# Altium schematic symbol library C0402C103K1RACAUTO.SchLib: 1 symbol
Pins are listed as number, name and electrical type; pins without a type are passive.

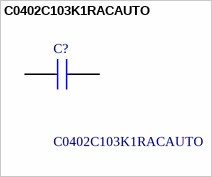
[diagram p0: symbol C0402C103K1RACAUTO]

## C0402C103K1RACAUTO
designator C?
Multilayer Ceramic Capacitors MLCC - SMD/SMT 100V 10000pF 10% X7R 1005 AEC-Q200; Manufacturer_Name: KEMET; Geometry.Height: 0.55mm; Mouser Part Number: 80-C0402C103K1RAUTO; Mouser Price/Stock: https://www.mouser.co.uk/ProductDetail/KEMET/C0402C103K1RACAUTO?qs=3Rah4i%252BhyCHXskxLpCJIBw%3D%3D; Manufacturer_Part_Number: C0402C103K1RACAUTO; Datasheet Link: *
footprint CAPC1005X55N
pins: 1, 2